# Altium footprint library H01R0.PcbLib: 17 footprints (part 1 of 2)
Each footprint in its own frame and in the unit in brackets; x right, y up, seen from the top. Pads: shape width x height; smd on the part's side, far side on the other; paste and mask are expansions set on the pad; w line width, h text height; cw(c..) or ccw(c..) is an arc to the next point about the centre after c.
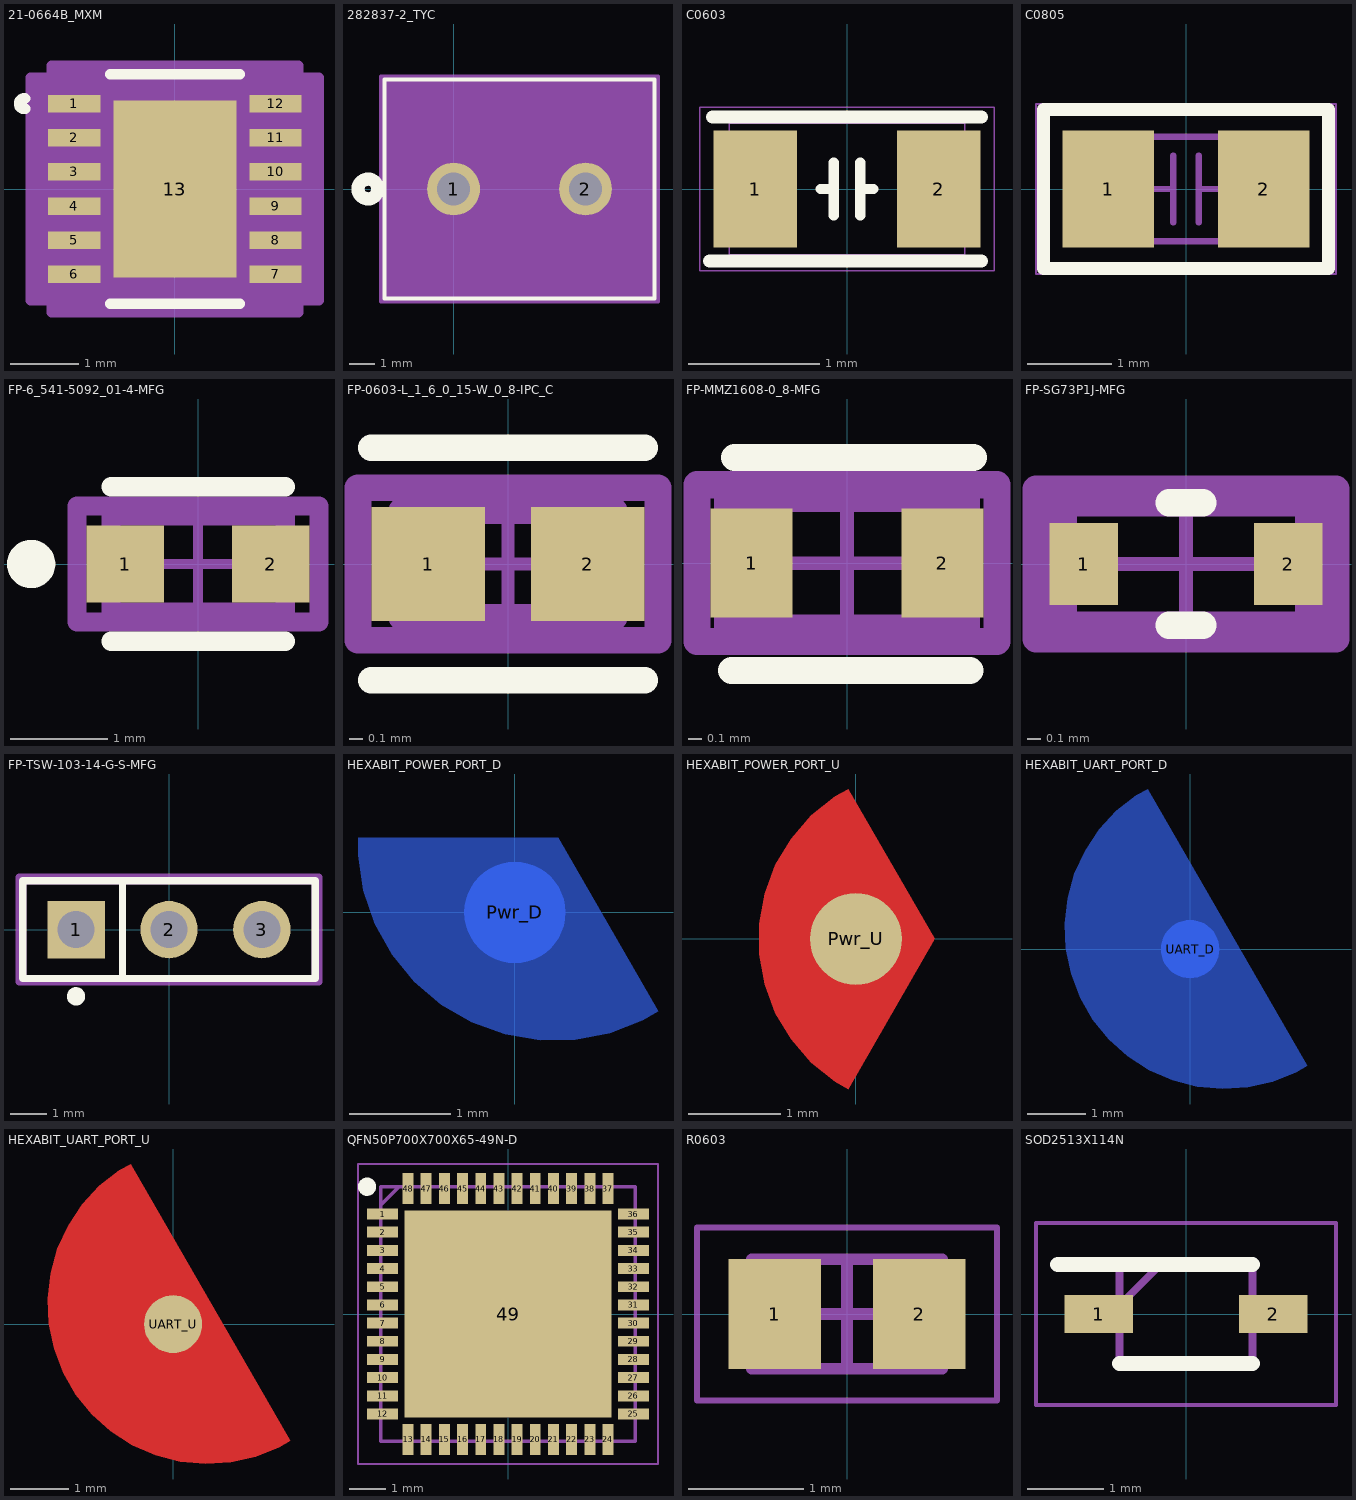
[diagram p0: the footprints below, top view; thin cyan lines are the x and y axes]

## 21-0664B_MXM [mil]
pads (13):
  rect 30x10 smd paste+0 mask+0: 1(-58,49.21) 2(-58,29.53) 3(-58,9.84) 4(-58,-9.84) 5(-58,-29.53) 6(-58,-49.21) 7(58,-49.21) 8(58,-29.53) 9(58,-9.84) 10(58,9.84) 11(58,29.53) 12(58,49.21)
  rect 71x102 smd paste+0 mask+0: 13(0,0)
Top Overlay:
  lines w6: -86.1,46.31 cw(c-86.84,49.21) -86.1,52.12 ; -37.28,-66 37.28,-66 ; -37.28,66 37.28,66
Top Paste:
  region: 31.56,47.06 -31.56,47.06 -31.56,3.94 31.56,3.94
  region: 31.56,-3.94 -31.56,-3.94 -31.56,-47.06 31.56,-47.06
Mechanical 13:
  lines w1: -61,-61 61,-61 61,61 -61,61 -61,-61
Mechanical 15:
  region: -71,-64.21 -83,-64.21 -83,64.21 -71,64.21 -71,71 71,71 71,64.21 83,64.21 83,-64.21 71,-64.21 71,-71 -71,-71
  lines w6: -83,-64.21 -83,64.21 -71,64.21 -71,71 71,71 71,64.21 83,64.21 83,-64.21 71,-64.21 71,-71 -71,-71 -71,-64.21 -83,-64.21
3D body "21-0664B_MXM.step": height 32.09, standoff 0, extent -60.98,-60.98 60.98,60.98

## 282837-2_TYC [mil]
pads (2):
  round 80 / inner round 60 / far side round 80 hole 50 paste-99999 mask+0: 1(0,0) 2(200,0)
Top Overlay:
  circle w20: c-130,0 r15
  lines w6: -105,-166 -105,166 305,166 305,-166 -105,-166
Bottom Overlay:
  circle w20: c-130,0 r15
Mechanical 13:
  circle w20: c0,75 r15
  lines w1: -100,-161 -100,161 300,161 300,-161 -100,-161
Mechanical 15:
  region: 310,171 -110,171 -110,-171 310,-171
  lines w6: -110,-171 310,-171 310,171 -110,171 -110,-171

## C0603 [mm]
height 4.2
pads (2):
  rect 0.64x0.89 smd mask+0.05: 1(-0.7,0) 2(0.7,0)
Top Overlay:
  lines w0.08: -0.2,0 -0.1,0 ; -0.1,-0.2 -0.1,0.2 ; 0.1,-0.2 0.1,0.2 ; 0.1,0 0.2,0
  lines w0.1: -1.05,-0.55 1.025,-0.55 ; -1.025,0.55 1.025,0.55
Mechanical 14:
  lines w0.01: -0.9,-0.5 0.9,-0.5 0.9,0.5 -0.9,0.5 -0.9,-0.5
Mechanical 16:
  lines w0.01: -1.125,-0.625 -1.125,0.625 1.125,0.625 1.125,-0.625 -1.125,-0.625
3D body: height 1.4, standoff 0, extent -0.899,-0.499 0.899,0.499
3D body "C0603.STEP": height 0.5, standoff 0, extent -0.8,-0.4 0.8,0.4

## C0805 [mil]
height 165.35
pads (2):
  rect 43x55 smd: 1(-36.5,0) 2(36.5,0)
Top Overlay:
  lines w6: -66.93,-37.4 -66.93,37.4 -11.81,37.4 66.93,37.4 66.93,-37.4 -66.93,-37.4
Top Courtyard:
  lines w1: -39.37,-24.61 -39.37,24.61 39.37,24.61 39.37,-24.61 -39.37,-24.61
Top 3D Body:
  lines w1: -70.5,-40 -70.5,40 70.5,40 70.5,-40 -70.5,-40
Mechanical 32:
  text "2" at 26.5,0 h25
  text "1" at -46.5,0 h25
Mechanical33:
  lines w6: -66.93,-37.4 -66.93,37.4 -11.81,37.4 66.93,37.4 66.93,-37.4 -66.93,-37.4
  text "C40" at 73.5,-7.17 h25
Top Assembly:
  lines w3: -33.46,0 -5.91,0 ; -5.91,-15.75 -5.91,0 ; -5.91,15.75 -5.91,0 ; 5.91,-15.75 5.91,0 ; 5.91,15.75 5.91,0 ; 33.46,0 5.91,0 ; -39.37,-24.61 -39.37,24.61 39.37,24.61 39.37,-24.61 -39.37,-24.61
3D body "0805CAP.step": height 30.79, standoff 0, extent -39.21,-24.48 39.53,24.73

## FP-6_541-5092_01-4-MFG [mm]
height 4.2
pads (2):
  rect 0.8x0.8 smd paste+0 mask+0: 1(-0.75,0) 2(0.75,0)
Top Overlay:
  circle w0.25: c-1.725,0 r0.125
  lines w0.2: -0.9,-0.8 0.9,-0.8 ; -0.9,0.8 0.9,0.8
Top Component Center:
  lines w0.1: -0.5,0 0.5,0 ; 0,-0.5 0,0.5
Top Courtyard:
  lines w0.2: -1.25,-0.6 1.25,-0.6 1.25,0.6 -1.25,0.6 -1.25,-0.6
Top 3D Body:
  lines w0.2: -0.9,-0.5 0.9,-0.5 0.9,0.5 -0.9,0.5 -0.9,-0.5
Top Assembly:
  lines w0.2: -1.25,-0.6 1.25,-0.6 1.25,0.6 -1.25,0.6 -1.25,-0.6
3D body "Diode_Vishay_VLMY1300-GS08_eec.STEP": height 0.25, standoff 0, extent -1.25,-0.6 1.25,0.6

## FP-0603-L_1_6_0_15-W_0_8-IPC_C [mm]
pads (2):
  rect 0.858x0.862 smd paste+0 mask+0: 1(-0.602,0) 2(0.602,0)
Top Overlay:
  lines w0.2: -1.031,-0.875 1.031,-0.875 ; -1.031,0.875 1.031,0.875
Top Component Center:
  lines w0.1: -0.5,0 0.5,0 ; 0,-0.5 0,0.5
Top Courtyard:
  lines w0.2: -1.131,-0.575 -1.131,0.575 1.131,0.575 1.131,-0.575 -1.131,-0.575
Top 3D Body:
  lines w0.2: -0.8,-0.4 -0.8,0.4 0.8,0.4 0.8,-0.4 -0.8,-0.4
Top Assembly:
  lines w0.2: -1.131,-0.575 -1.131,0.575 1.131,0.575 1.131,-0.575 -1.131,-0.575
  text ".Designator" at 0,0.188 h1
3D body "Cap_Taiyo_Yuden_EMK107ABJ475KA-T_eec.STEP": height 0.25, standoff 0, extent -1.131,-0.575 1.131,0.575

## FP-MMZ1608-0_8-MFG [mm]
height 4.2
pads (2):
  rect 0.6x0.8 smd paste+0 mask+0: 1(-0.7,0) 2(0.7,0)
Top Overlay:
  lines w0.2: -0.848,-0.787 0.902,-0.787 ; -0.825,0.775 0.925,0.775
Top Component Center:
  lines w0.1: -0.5,0 0.5,0 ; 0,-0.5 0,0.5
Top Courtyard:
  lines w0.2: -1.1,-0.575 -1.1,0.575 1.1,0.575 1.1,-0.575 -1.1,-0.575
Top 3D Body:
  lines w0.2: -0.875,-0.475 -0.875,0.475 0.875,0.475 0.875,-0.475 -0.875,-0.475
Top Assembly:
  lines w0.2: -1.1,-0.575 -1.1,0.575 1.1,0.575 1.1,-0.575 -1.1,-0.575
3D body "FBead_TDK_MMZ1608A182BTA00_eec.STEP": height 0.95, standoff 0, extent -0.8,-0.4 0.8,0.4

## FP-SG73P1J-MFG [mm]
pads (2):
  rect 0.5x0.6 smd paste+0 mask+0: 1(-0.75,0) 2(0.75,0)
Top Overlay:
  lines w0.2: -0.125,-0.45 0.125,-0.45 ; -0.125,0.45 0.125,0.45
Top Component Center:
  lines w0.1: -0.5,0 0.5,0 ; 0,-0.5 0,0.5
Top Courtyard:
  lines w0.2: -1.1,-0.55 -1.1,0.55 1.1,0.55 1.1,-0.55 -1.1,-0.55
Top 3D Body:
  lines w0.2: -0.9,-0.45 -0.9,0.45 0.9,0.45 0.9,-0.45 -0.9,-0.45
Top Assembly:
  lines w0.2: -1.1,-0.55 -1.1,0.55 1.1,0.55 1.1,-0.55 -1.1,-0.55
  text ".Designator" at 0,0.188 h1
3D body "Res_KOA_Speer_SG73P1JTTD1002F_eec.STEP": height 0.25, standoff 0, extent -1.1,-0.55 1.1,0.55

## FP-TSW-103-14-G-S-MFG [mm]
height 4.2
pads (3):
  rect 1.57x1.57 hole 1.02 paste-2539.97 mask+0: 1(-2.54,0)
  round 1.57 hole 1.02 paste-2539.97 mask+0: 2(0,0) 3(2.54,0)
Top Overlay:
  circle w0.25: c-2.54,-1.825 r0.125
  lines w0.2: -1.27,-1.335 -1.27,1.335 ; -4,-1.335 4,-1.335 4,1.335 -4,1.335 -4,-1.335
Top Component Center:
  lines w0.1: -0.5,0 0.5,0 ; 0,-0.5 0,0.5
Top Courtyard:
  lines w0.2: -4.1,-1.435 4.1,-1.435 4.1,1.435 -4.1,1.435 -4.1,-1.435
Top 3D Body:
  lines w0.2: -4,-1.335 4,-1.335 4,1.335 -4,1.335 -4,-1.335
Top Assembly:
  lines w0.2: -4.1,-1.435 4.1,-1.435 4.1,1.435 -4.1,1.435 -4.1,-1.435
3D body "Conn_Samtec_TSW-103-14-G-S_eec.STEP": height 0.25, standoff 0, extent -4.1,-1.435 4.1,1.435

## HEXABIT_POWER_PORT_D [mm]
pads (1):
  rrect100% 1x1 smd far side paste+0: Pwr_D(0,0)
Bottom Layer:
  region: 1.418,-0.978 1.269,-1.069 0.942,-1.195 0.599,-1.262 0.249,-1.266 -0.096,-1.207 -0.425,-1.089 -0.728,-0.914 -0.995,-0.687 -1.217,-0.417 -1.388,-0.112 -1.501,0.219 -1.554,0.565 -1.549,0.74 0.429,0.74
Bottom Solder:
  region: 1.418,-0.978 1.269,-1.069 0.942,-1.195 0.599,-1.262 0.249,-1.266 -0.096,-1.207 -0.425,-1.089 -0.728,-0.914 -0.995,-0.687 -1.217,-0.417 -1.388,-0.112 -1.501,0.219 -1.554,0.565 -1.549,0.74 0.429,0.74

## HEXABIT_POWER_PORT_U [mm]
pads (1):
  rrect100% 1x1 smd paste+0: Pwr_U(0,0)
Top Layer:
  region: -0.081,-1.631 -0.228,-1.552 -0.487,-1.343 -0.706,-1.092 -0.876,-0.806 -0.993,-0.494 -1.052,-0.167 -1.052,0.167 -0.993,0.494 -0.876,0.806 -0.706,1.092 -0.487,1.343 -0.228,1.552 -0.081,1.631 0.858,0
Top Solder:
  region: -0.081,-1.631 -0.228,-1.552 -0.487,-1.343 -0.706,-1.092 -0.876,-0.806 -0.993,-0.494 -1.052,-0.167 -1.052,0.167 -0.993,0.494 -0.876,0.806 -0.706,1.092 -0.487,1.343 -0.228,1.552 -0.081,1.631 0.858,0

## HEXABIT_UART_PORT_D [mm]
pads (1):
  rrect100% 1x1 smd far side paste+0: UART_D(0,0)
Bottom Layer:
  region: 2.018,-2.008 1.83,-2.121 1.424,-2.285 0.997,-2.382 0.559,-2.41 0.123,-2.369 -0.301,-2.259 -0.702,-2.084 -1.071,-1.847 -1.398,-1.555 -1.674,-1.215 -1.893,-0.835 -2.049,-0.426 -2.138,0.003 -2.159,0.441 -2.11,0.876 -1.992,1.298 -1.81,1.696 -1.566,2.061 -1.268,2.382 -0.923,2.652 -0.731,2.758
Bottom Solder:
  region: 1.518,-1.138 1.369,-1.23 1.04,-1.351 0.693,-1.405 0.343,-1.388 0.003,-1.302 -0.314,-1.151 -0.593,-0.94 -0.826,-0.677 -1.001,-0.373 -1.113,-0.041 -1.157,0.307 -1.13,0.657 -1.035,0.994 -0.874,1.306 -0.655,1.58 -0.386,1.804 -0.232,1.888

## HEXABIT_UART_PORT_U [mm]
pads (1):
  rrect100% 1x1 smd paste+0: UART_U(0,0)
Top Layer:
  region: 2.018,-2.008 1.83,-2.121 1.424,-2.285 0.997,-2.382 0.559,-2.41 0.123,-2.369 -0.301,-2.259 -0.702,-2.084 -1.071,-1.847 -1.398,-1.555 -1.674,-1.215 -1.893,-0.835 -2.049,-0.426 -2.138,0.003 -2.159,0.441 -2.11,0.876 -1.992,1.298 -1.81,1.696 -1.566,2.061 -1.268,2.382 -0.923,2.652 -0.731,2.758
Top Solder:
  region: 1.518,-1.138 1.369,-1.23 1.04,-1.351 0.693,-1.405 0.343,-1.388 0.003,-1.302 -0.314,-1.151 -0.593,-0.94 -0.826,-0.677 -1.001,-0.373 -1.113,-0.041 -1.157,0.307 -1.13,0.657 -1.035,0.994 -0.874,1.306 -0.655,1.58 -0.386,1.804 -0.232,1.888

## QFN50P700X700X65-49N-D [mm]
height 4.2
pads (49):
  rect 0.85x0.3 smd mask+0: 1(-3.45,2.75) 2(-3.45,2.25) 3(-3.45,1.75) 4(-3.45,1.25) 5(-3.45,0.75) 6(-3.45,0.25) 7(-3.45,-0.25) 8(-3.45,-0.75) 9(-3.45,-1.25) 10(-3.45,-1.75) 11(-3.45,-2.25) 12(-3.45,-2.75) 25(3.45,-2.75) 26(3.45,-2.25) 27(3.45,-1.75) 28(3.45,-1.25) 29(3.45,-0.75) 30(3.45,-0.25) 31(3.45,0.25) 32(3.45,0.75) 33(3.45,1.25) 34(3.45,1.75) 35(3.45,2.25) 36(3.45,2.75)
  rect 0.3x0.85 smd mask+0: 13(-2.75,-3.45) 14(-2.25,-3.45) 15(-1.75,-3.45) 16(-1.25,-3.45) 17(-0.75,-3.45) 18(-0.25,-3.45) 19(0.25,-3.45) 20(0.75,-3.45) 21(1.25,-3.45) 22(1.75,-3.45) 23(2.25,-3.45) 24(2.75,-3.45) 37(2.75,3.45) 38(2.25,3.45) 39(1.75,3.45) 40(1.25,3.45) 41(0.75,3.45) 42(0.25,3.45) 43(-0.25,3.45) 44(-0.75,3.45) 45(-1.25,3.45) 46(-1.75,3.45) 47(-2.25,3.45) 48(-2.75,3.45)
  rect 5.7x5.7 smd mask+0: 49(0,0)
Top Overlay:
  circle w0.25: c-3.875,3.5 r0.125
Mechanical 13:
  lines w0.1: -3.5,3 -3,3.5 ; -3.5,-3.5 3.5,-3.5 3.5,3.5 -3.5,3.5 -3.5,-3.5
Mechanical 15:
  lines w0.05: -4.125,-4.125 4.125,-4.125 4.125,4.125 -4.125,4.125 -4.125,-4.125
3D body "STM32G0B1CEU6.stp": height 0.61, standoff 0, extent -3.556,-3.556 3.556,3.556

## R0603 [mm] "Chip Resistor, 2-Leads, Body 1.55x0.85mm, IPC Medium Density"
height 0.5
pads (2):
  rect 0.8x0.95 smd: 1(-0.625,0) 2(0.625,0)
Mechanical 13:
  lines w0.1: -0.825,-0.475 -0.825,0.475 0.825,0.475 0.825,-0.475 -0.825,-0.475
Mechanical 15:
  lines w0.05: -1.3,-0.75 -1.3,0.75 1.3,0.75 1.3,-0.75 -1.3,-0.75
  lines w0.1: -0.475,0 0.475,0 ; 0,-0.475 0,0.475
3D body: height 0.5, standoff 0, extent -0.525,-0.475 0.525,0.475
3D body: height 0.5, standoff 0, extent -0.825,-0.475 -0.525,0.475
3D body: height 0.5, standoff 0, extent 0.525,-0.475 0.825,0.475

## SOD2513X114N [mm]
height 4.2
pads (2):
  rect 0.9x0.5 smd: 1(-1.15,0) 2(1.15,0)
Top Overlay:
  lines w0.2: -1.688,0.65 0.875,0.65 ; -0.875,-0.65 0.875,-0.65
Top Courtyard:
  lines w0.05: -1.975,-1.2 -1.975,1.2 1.975,1.2 1.975,-1.2 -1.975,-1.2
Top 3D Body:
  lines w0.1: -0.875,0.112 -0.338,0.65 ; -0.875,-0.65 -0.875,0.65 0.875,0.65 0.875,-0.65 -0.875,-0.65
3D body "CDSOD323-T03SC.stp": height 1.14, standoff 0, extent -1.272,-0.65 1.272,0.65